# Altium integrated library FH55M-40S-0.4SH.IntLib: 1 symbol
Pins are listed as number, name and electrical type; pins without a type are passive.

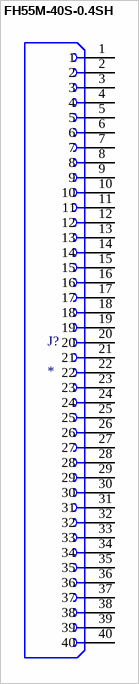
[diagram p0: symbol FH55M-40S-0.4SH]

## FH55M-40S-0.4SH
designator J?
MP: FH55M-40S-0.4SH; Value: *; Availability: Unavailable; Package: None; Price: None
footprint HRS_FH55M-40S-0.4SH
pins: 1, 2, 3, 4, 5, 6, 7, 8, 9, 10, 11, 12, 13, 14, 15, 16, 17, 18, 19, 20, 21, 22, 23, 24, 25, 26, 27, 28, 29, 30, 31, 32, 33, 34, 35, 36, 37, 38, 39, 40